# Altium schematic symbol library MOD-NRF24L01-PA-LNA.SchLib: 1 symbol
Pins are listed as number, name and electrical type; pins without a type are passive.

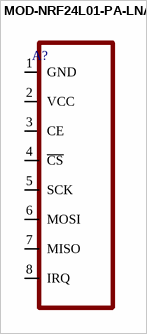
[diagram p0: symbol MOD-NRF24L01-PA-LNA]

## MOD-NRF24L01-PA-LNA
designator A?
pins: 1 GND, 2 VCC, 3 CE, 4 ~{CS}, 5 SCK, 6 MOSI, 7 MISO, 8 IRQ